# EAGLE library part TPS7A90 (library borkedlabs-powerics)
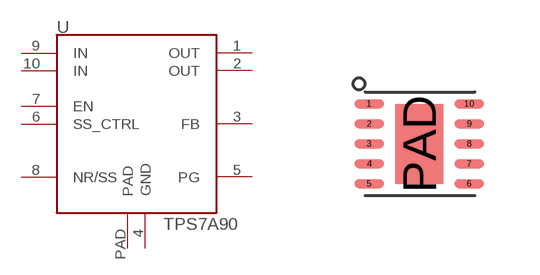
[diagram p18: symbol with the pads of WSON10-2.5X2.5; footprint WSON10-2.5X2.5]

Designator prefix U

## TPS7A90DSK (MPN: TPS7A9001DSK; PACKAGE: WSON10-2.5x2.5)  [WSON10-2.5X2.5]
1  OUT
2  OUT
3  FB
4  GND
5  PG
6  SS_CTRL
7  EN
8  NR/SS
9  IN
10  IN
PAD  PAD

## Footprint WSON10-2.5X2.5 (pad centres in mm)
Meant for TI DSK/S-PDO-N10
smd 0.75 x 0.23: 1 -1.25,1; 2 -1.25,0.5; 3 -1.25,0; 4 -1.25,-0.5; 5 -1.25,-1; 6 1.25,-1; 7 1.25,-0.5; 8 1.25,0; 9 1.25,0.5; 10 1.25,1
smd 1.2 x 2: PAD 0,0